# Altium footprint library Connectors.PcbLib: 18 footprints (part 2 of 2)
Each footprint in its own frame and in the unit in brackets; x right, y up, seen from the top. Pads: shape width x height; smd on the part's side, far side on the other; paste and mask are expansions set on the pad; w line width, h text height; cw(c..) or ccw(c..) is an arc to the next point about the centre after c.
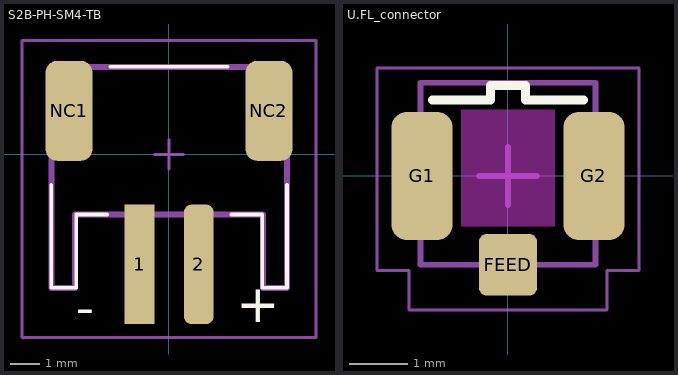
[diagram p1: the footprints below, top view; thin cyan lines are the x and y axes]

## S2B-PH-SM4-TB [mil]
pads (4):
  rect 40x160 smd: 1(-39.44,-147.2)
  rrect50% 40x160 smd: 2(39.93,-147.2)
  rrect50% 63x134 smd: NC1(-133.93,58.46) NC2(133.93,58.46)
Top Overlay:
  lines w5: -157.55,-40.43 -157.55,-178.7 -124.09,-178.7 -124.09,-80.28 -82.68,-80.28 ; -78.74,117.46 78.74,117.46 ; 83.52,-80.28 124.93,-80.28 124.93,-178.7 157.93,-178.7 157.93,-40.43
  text "+" at 89.93,-241.54 h86.8
  text "-" at -125,-245 h86.8
Mechanical 13:
  lines w8: -157.55,-178.7 -157.55,117.46 157.93,117.46 157.93,-178.7 125.93,-178.7 125.93,-80.28 -126.06,-80.28 -126.06,-178.7 -157.55,-178.7
  text ".Designator" at -115,-10 h66.93
Mechanical 15:
  lines w3.94: -19.69,0 19.68,0 ; 0,-19.68 0,19.69 ; -196.85,-245 196.85,-245 196.85,152.48 -196.85,152.48 -196.85,-245
3D body "S2B-PH-SM4-TB.STEP": height 219.54, standoff -0.94, extent -156.09,-215.83 154.93,122.76

## U.FL_connector [mm]
pads (3):
  rrect25% 1x1.05 smd mask+0.051: FEED(0,-1.525)
  rrect50% 1.05x2.2 smd mask+0.051: G1(-1.475,0) G2(1.475,0)
Top Layer keep-out:
  region: -0.8,-0.863 0.8,-0.863 0.8,1.137 -0.8,1.137
Top Overlay:
  lines w0.152: -1.3,1.303 -0.3,1.303 -0.3,1.553 0.3,1.553 0.3,1.303 1.3,1.303
Mechanical 13:
  lines w0.1: -1.5,-1.525 -1.5,1.6 1.5,1.6 1.5,-1.525 -1.5,-1.525
Mechanical 15:
  lines w0.05: -2.25,-1.625 -2.25,1.85 2.25,1.85 2.25,-1.625 1.7,-1.625 1.7,-2.3 -1.7,-2.3 -1.7,-1.625 -2.25,-1.625
  lines w0.1: -0.5,0 0.5,0 ; 0,-0.5 0,0.5
Mechanical 29:
  lines w0.1: -1.5,-1.525 1.5,-1.525 1.5,1.6 -1.5,1.6 -1.5,-1.525
  text ".Designator" at -0.85,-0.2 h0.5
3D body "User Library-U_FL-R-SMT-1.step": height 1.25, standoff -0.01, extent -1.5,-1.513 1.5,1.587